# EAGLE library part CCS811BRK (library AQS)
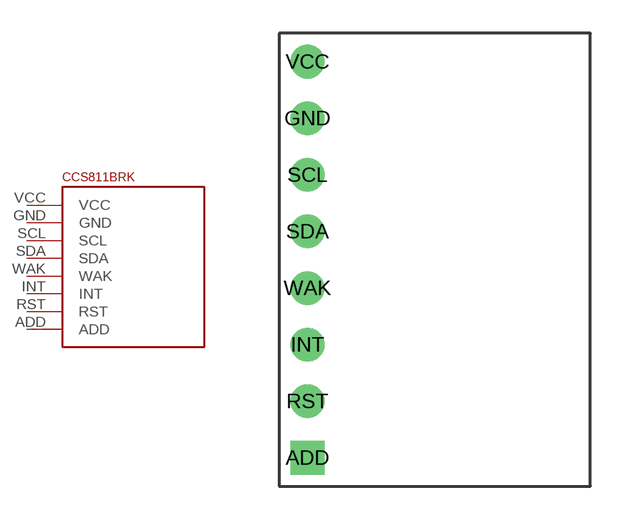
[diagram p3: symbol with the pads of CCS811BRK; footprint CCS811BRK]

Designator prefix -

## CCS811BRK  [CCS811BRK]
ADD  ADD
GND  GND
INT  INT
RST  RST
SCL  SCL
SDA  SDA
VCC  VCC
WAK  WAK

## Footprint CCS811BRK (pad centres in mm)
drill 1 square: ADD -6.35,-8.89
drill 1: GND -6.35,6.35; INT -6.35,-3.81; RST -6.35,-6.35; SCL -6.35,3.81; SDA -6.35,1.27; VCC -6.35,8.89; WAK -6.35,-1.27